# Altium footprint library display 1202.PcbLib: 25 footprints (part 2 of 2)
Each footprint in its own frame and in the unit in brackets; x right, y up, seen from the top. Pads: shape width x height; smd on the part's side, far side on the other; paste and mask are expansions set on the pad; w line width, h text height; cw(c..) or ccw(c..) is an arc to the next point about the centre after c.
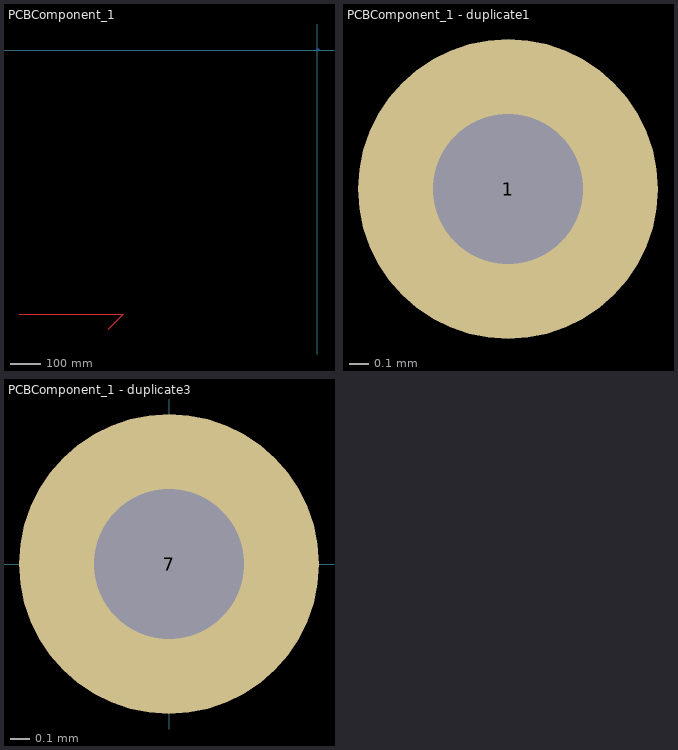
[diagram p1: the footprints below, top view; thin cyan lines are the x and y axes]

## lcd 1202 [mm]

## lcd - duplicate [mm]

## lsd [mm]

## PCBComponent_1 [mm]
Top Layer:
  lines w0.254: -974.09,-861.314 -633.73,-861.314 -683.387,-910.971
Bottom Layer:
  lines w0.254: 0,1.499 0,5.207 ; 0.508,1.499 0.508,5.182 ; 1.016,1.499 1.016,5.182 ; 1.524,1.499 1.524,5.182 ; 2.032,1.499 2.032,5.182 ; 2.54,1.499 2.54,5.182 ; 3.048,1.499 3.048,5.182 ; 3.556,1.499 3.556,5.182 ; 4.064,1.499 4.064,5.182 ; 4.572,1.499 4.572,5.182 ; 5.08,1.499 5.08,5.182

## PCBComponent_1 - duplicate [mm]

## PCBComponent_1 - duplicate1 [mil]
pads (1):
  round 60 hole 30: 1(-293.31,37.4)

## PCBComponent_1 - duplicate2 [mm]

## PCBComponent_1 - duplicate3 [mil]
pads (1):
  round 60 hole 30: 7(0,0)

## PCBComponent_1 - duplicate4 [mm]